# Altium schematic symbol library Harting.SchLib: 11 symbols
Pins are listed as number, name and electrical type; pins without a type are passive.

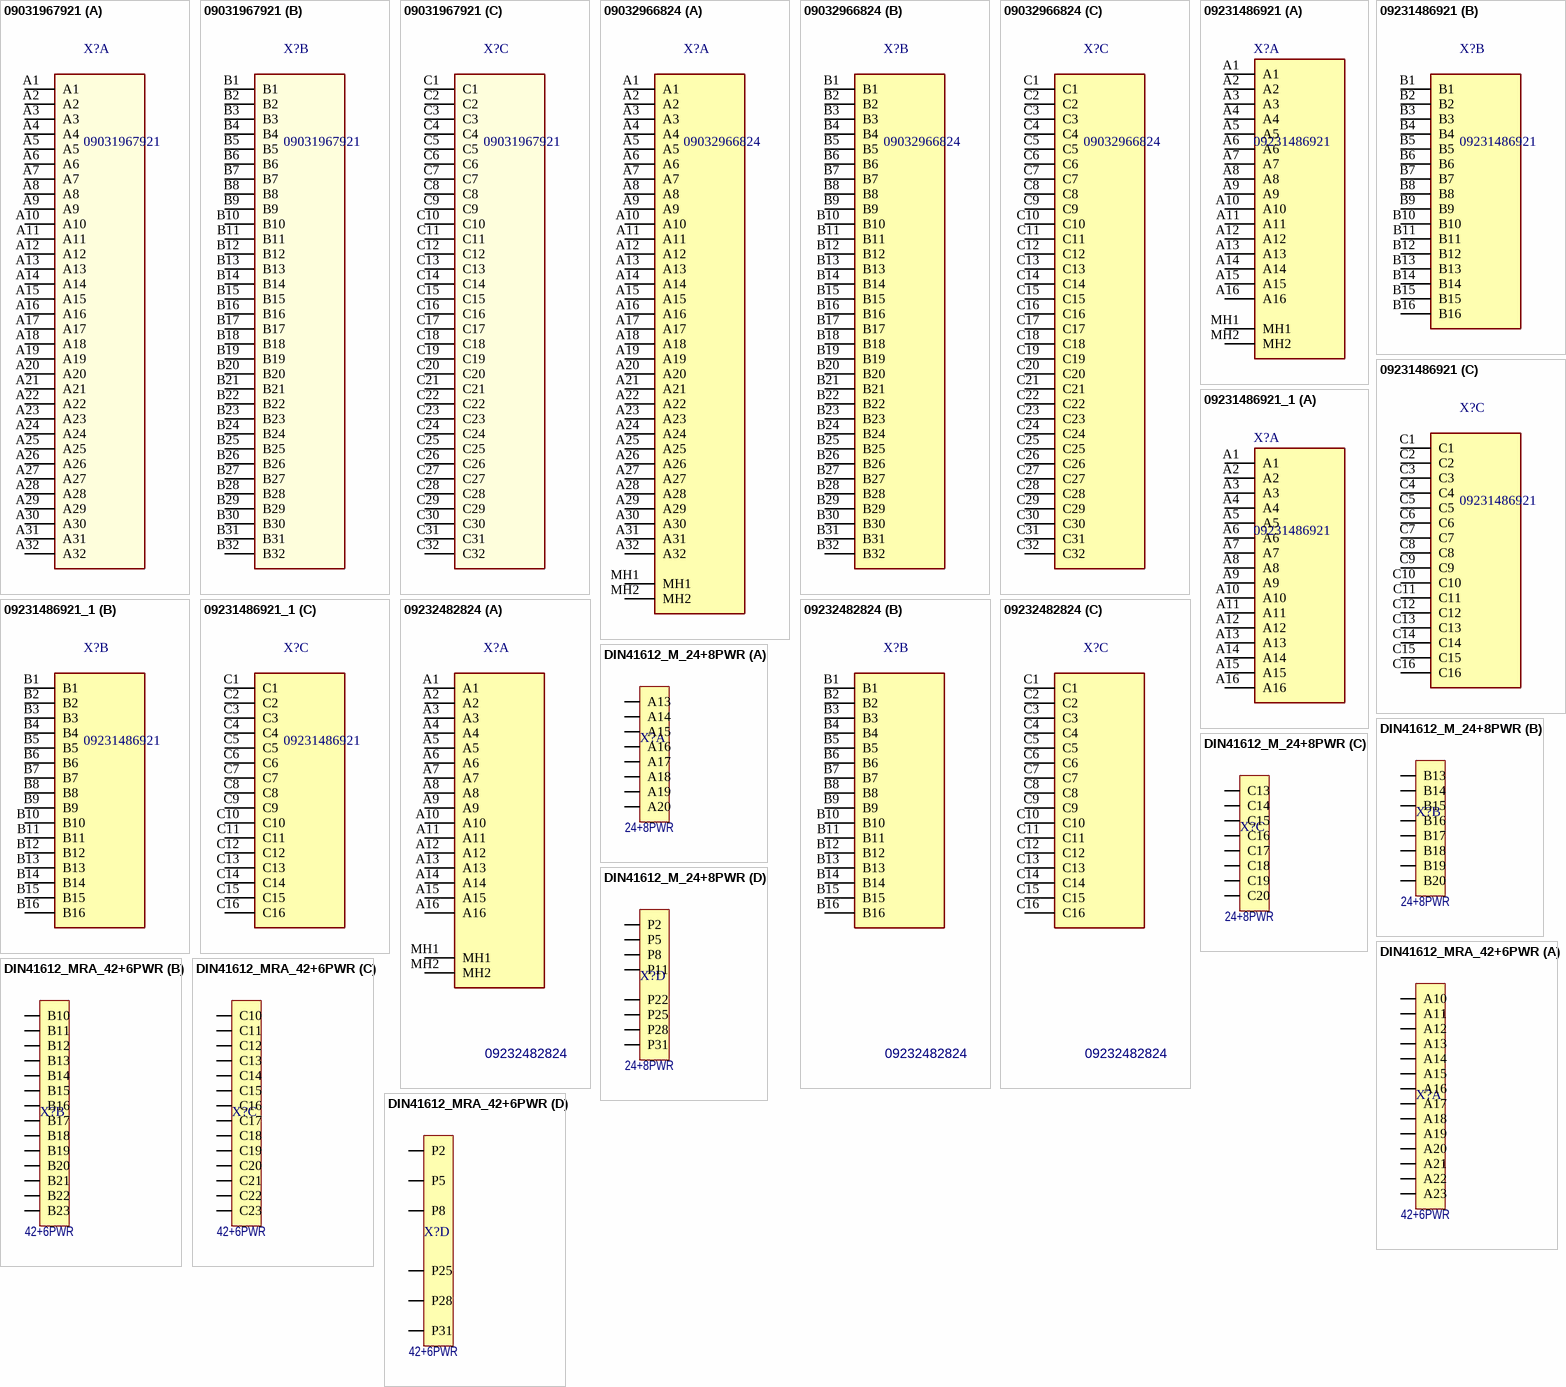
[diagram p0: symbols 09031967921 to DIN41612_MRA_42+6PWR]

## 09031967921
designator X?
DIN C male angled, 96pin, PL1, NFF F1-I2; Manufacturer: HARTING; Geometry.Height: 11.1mm; Ordering Number: 09031967921; Mouser Part Number: 617-09031962921222; Mouser Price/Stock: https://www.mouser.co.uk/ProductDetail/HARTING/09031962921222?qs=g4r0utqXwHHoAd6j7T8voA%3D%3D; Arrow Part Number: 09031962921222; Arrow Price/Stock: https://www.arrow.com/en/products/09031962921222/harting?region=nac; Datasheet Link: https://b2b.harting.com/files/download/PRD/PDF_DS/PDF_DS_09031220202.pdf
footprint 09031962921222
part A pins: A1, A2, A3, A4, A5, A6, A7, A8, A9, A10, A11, A12, A13, A14, A15, A16, A17, A18, A19, A20, A21, A22, A23, A24, A25, A26, A27, A28, A29, A30, A31, A32
part B pins: B1, B2, B3, B4, B5, B6, B7, B8, B9, B10, B11, B12, B13, B14, B15, B16, B17, B18, B19, B20, B21, B22, B23, B24, B25, B26, B27, B28, B29, B30, B31, B32
part C pins: C1, C2, C3, C4, C5, C6, C7, C8, C9, C10, C11, C12, C13, C14, C15, C16, C17, C18, C19, C20, C21, C22, C23, C24, C25, C26, C27, C28, C29, C30, C31, C32

## 09032966824
designator X?
DIN C female straight 96pin, 2.9mm tails, PL2; Manufacturer: HARTING; Geometry.Height: 11.6mm; Ordering Number: 09032966824; Mouser Part Number: 617-09-03-296-6824; Mouser Price/Stock: https://www.mouser.co.uk/ProductDetail/HARTING/09032966824?qs=UV5Tb6pF94W6%2F4%252Bfx4iLqQ%3D%3D; Arrow Part Number: 09032966824; Arrow Price/Stock: https://www.arrow.com/en/products/09032966824/harting?region=europe; Datasheet Link: https://b2b.harting.com/files/download/PRD/PDF_DS/PDF_DS_09032100001.pdf
footprint 09032966824
part A pins: A1, A2, A3, A4, A5, A6, A7, A8, A9, A10, A11, A12, A13, A14, A15, A16, A17, A18, A19, A20, A21, A22, A23, A24, A25, A26, A27, A28, A29, A30, A31, A32, MH1, MH2
part B pins: B1, B2, B3, B4, B5, B6, B7, B8, B9, B10, B11, B12, B13, B14, B15, B16, B17, B18, B19, B20, B21, B22, B23, B24, B25, B26, B27, B28, B29, B30, B31, B32
part C pins: C1, C2, C3, C4, C5, C6, C7, C8, C9, C10, C11, C12, C13, C14, C15, C16, C17, C18, C19, C20, C21, C22, C23, C24, C25, C26, C27, C28, C29, C30, C31, C32

## 09231486921
designator X?
DIN 2C male straight 48pin; Manufacturer: HARTING; Geometry.Height: 11mm; Ordering Number: 09231486921; Mouser Part Number: *; Mouser Price/Stock: *; Arrow Part Number: 09 23 148 6921; Arrow Price/Stock: https://www.arrow.com/en/products/09231486921/harting; Datasheet Link: https://www.arrow.com/en/products/09231486921/harting
footprint 09231486921
part A pins: A1, A2, A3, A4, A5, A6, A7, A8, A9, A10, A11, A12, A13, A14, A15, A16, MH1, MH2
part B pins: B1, B2, B3, B4, B5, B6, B7, B8, B9, B10, B11, B12, B13, B14, B15, B16
part C pins: C1, C2, C3, C4, C5, C6, C7, C8, C9, C10, C11, C12, C13, C14, C15, C16

## 09231486921_1
designator X?, comment 09231486921
DIN 2C male straight 48pin / Without Mounting Holes for screws.; Manufacturer: HARTING; Geometry.Height: 11mm; Ordering Number: 09231486921; Mouser Part Number: *; Mouser Price/Stock: *; Arrow Part Number: 09 23 148 6921; Arrow Price/Stock: https://www.arrow.com/en/products/09231486921/harting; Datasheet Link: https://www.arrow.com/en/products/09231486921/harting
footprint 09231486921 - no Mounting Holes
part A pins: A1, A2, A3, A4, A5, A6, A7, A8, A9, A10, A11, A12, A13, A14, A15, A16
part B pins: B1, B2, B3, B4, B5, B6, B7, B8, B9, B10, B11, B12, B13, B14, B15, B16
part C pins: C1, C2, C3, C4, C5, C6, C7, C8, C9, C10, C11, C12, C13, C14, C15, C16

## 09232482824
designator X?
DIN 2C female straight 48pin, 2.9mm tails, PL1; Manufacturer: HARTING; Geometry.Height: 11.6mm; Ordering Number: 09232482824; Mouser Part Number: 617-09232482824; Mouser Price/Stock: https://www.mouser.co.uk/ProductDetail/HARTING/09232482824?qs=Afqhj6cPmO8bPFy5EsJjEQ%3D%3D; Arrow Part Number: *; Arrow Price/Stock: *; Datasheet Link: https://b2b.harting.com/files/download/PRD/PDF_DS/PDF_DS_09032100001.pdf
footprint 09232482824
footprint Model Name (Model Description)
part A pins: A1, A2, A3, A4, A5, A6, A7, A8, A9, A10, A11, A12, A13, A14, A15, A16, MH1, MH2
part B pins: B1, B2, B3, B4, B5, B6, B7, B8, B9, B10, B11, B12, B13, B14, B15, B16
part C pins: C1, C2, C3, C4, C5, C6, C7, C8, C9, C10, C11, C12, C13, C14, C15, C16

## DIN41612_M_24+8PWR
designator X?, comment 24+8PWR
DIN 41612 Bauform M 24+8 Federleiste mit Powerkontakten; Manufacturer: Harting; € / St.: 54,00; Ordering Number: 09032246804 + 8x 09030006104; ComponentLink1Description: Datasheet; ComponentLink1URL: D:\Prj\_Altium\IntLib_leh2fe\DS\Harting\DIN41612_Steckverbinder.pdf; ComponentLink2URL: D:\Prj\_Altium\IntLib_leh2fe\DS\Harting\0903224X805_100072218DRW027A.pdf; ComponentLink2Description: Drawing1; Value: 24+8PWR
footprint DIN 41612 24+8 (Female Connector Type M 24+8)
part A pins: A13, A14, A15, A16, A17, A18, A19, A20
part B pins: B13, B14, B15, B16, B17, B18, B19, B20
part C pins: C13, C14, C15, C16, C17, C18, C19, C20
part D pins: 2 P2, 5 P5, 8 P8, 11 P11, 22 P22, 25 P25, 28 P28, 31 P31

## DIN41612_MRA_42+6PWR
designator X?, comment 42+6PWR
DIN 41612 Bauform M 42+6 Messerleiste mit Powerkontakten; Manufacturer: Harting; € / St.: 48,00; Ordering Number: 09031426901 + 6x 09030006104; ComponentLink1Description: Datasheet; ComponentLink1URL: D:\Prj\_Altium\IntLib_leh2fe\DS\Harting\DIN41612_Steckverbinder.pdf; ComponentLink2URL: D:\Prj\_Altium\IntLib_leh2fe\DS\Harting\Harting_DIN41612_Messerleiste_0903142X901.pdf; ComponentLink2Description: Drawing1; ComponentLink3Description: Drawing2; ComponentLink3URL: D:\Prj\_Altium\IntLib_leh2fe\DS\Harting\Harting_DIN41612_Kontakt_0903000X104.pdf; Value: 42+6PWR
footprint DIN41612_M_Messerleiste42+6 (Steckverbinder DIN 41 612 Bauform M Messerleiste 42+6 mit Hochstromkontakten)
part A pins: A10, A11, A12, A13, A14, A15, A16, A17, A18, A19, A20, A21, A22, A23
part B pins: B10, B11, B12, B13, B14, B15, B16, B17, B18, B19, B20, B21, B22, B23
part C pins: C10, C11, C12, C13, C14, C15, C16, C17, C18, C19, C20, C21, C22, C23
part D pins: P2, P5, P8, P25, P28, P31

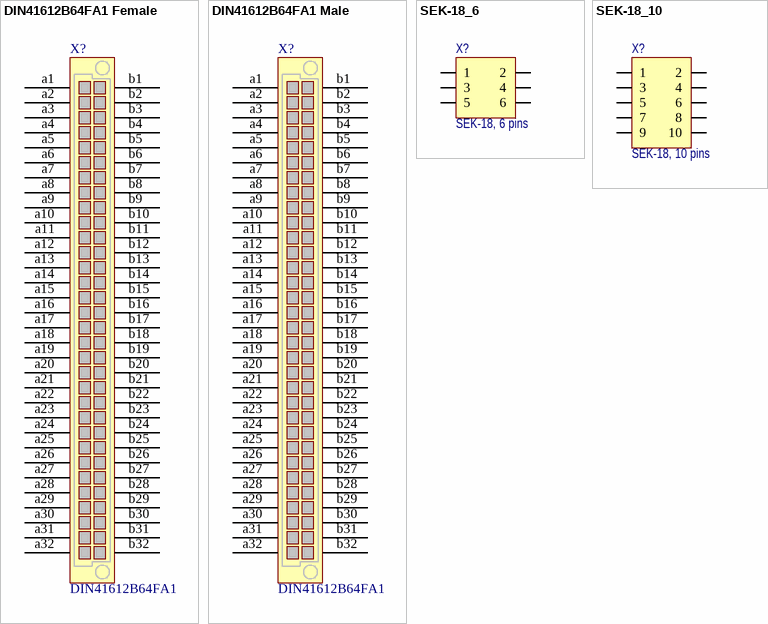
[diagram p1: symbols DIN41612B64FA1 Female to SEK-18_10]

## DIN41612B64FA1 Female
designator X?, comment DIN41612B64FA1
DIN 41612, IEC 60603-2, Anforderungsstufe 1; Manufacturer 1: Harting; Manufacturer Part Number 1: 09 02 264 2824; HelpUrl: http://datasheets/connector/harting/DIN41612B__0902264X824_100179617DRW028A.pdf
footprint HARTING_09_02_264_2824
pins: a1, a2, a3, a4, a5, a6, a7, a8, a9, a10, a11, a12, a13, a14, a15, a16, a17, a18, a19, a20, a21, a22, a23, a24, a25, a26, a27, a28, a29, a30, a31, a32, b1, b2, b3, b4, b5, b6, b7, b8, b9, b10, b11, b12, b13, b14, b15, b16, b17, b18, b19, b20, b21, b22, b23, b24, b25, b26, b27, b28, b29, b30, b31, b32

## DIN41612B64FA1 Male
designator X?, comment DIN41612B64FA1
DIN 41612, IEC 60603-2, Anforderungsstufe 1; Manufacturer 1: Harting; Manufacturer Part Number 1: 09 02 364 6921; HelpUrl: http://datasheets/connector/harting/DIN41612B__0902264X824_100179617DRW028A.pdf
footprint HARTING_09_02_364_6921
pins: a1, a2, a3, a4, a5, a6, a7, a8, a9, a10, a11, a12, a13, a14, a15, a16, a17, a18, a19, a20, a21, a22, a23, a24, a25, a26, a27, a28, a29, a30, a31, a32, b1, b2, b3, b4, b5, b6, b7, b8, b9, b10, b11, b12, b13, b14, b15, b16, b17, b18, b19, b20, b21, b22, b23, b24, b25, b26, b27, b28, b29, b30, b31, b32

## SEK-18_6
designator X?, comment SEK-18, 6 pins
Wannenstecker; Manufacturer: Harting; Part Number: 09 18 506 6324; Part ID: SEK-18_6; Price: 1,22; ComponentLink1Description: Datasheet; ComponentLink1URL: D:\Prj\_Altium\Lib\DbLib_Nieuwenhuizen\Datasheets\Harting\Harting_SEK-18_DS.pdf; Value: SEK-18, 6 pins
footprint Harting_SEK-18_6
pins: 1, 2, 3, 4, 5, 6

## SEK-18_10
designator X?, comment SEK-18, 10 pins
Wannenstecker; Manufacturer: Harting; Part Number: 09 18 510 6324; Part ID: SEK-18_10; Price: 1,48; ComponentLink1Description: Datasheet; ComponentLink1URL: D:\Prj\_Altium\Lib\DbLib_Nieuwenhuizen\Datasheets\Harting\Harting_SEK-18_DS.pdf; Value: SEK-18, 10 pins
footprint Harting_SEK-18_10
pins: 1, 2, 3, 4, 5, 6, 7, 8, 9, 10